# EAGLE library part HCPL2231 (library opto)
HCPL2231 Dual optocoupler with Schmitt trigger output (HP/Agilent) +5V supply, 5Mbit data rate, 1.8mA input, 1kV/µs CMR
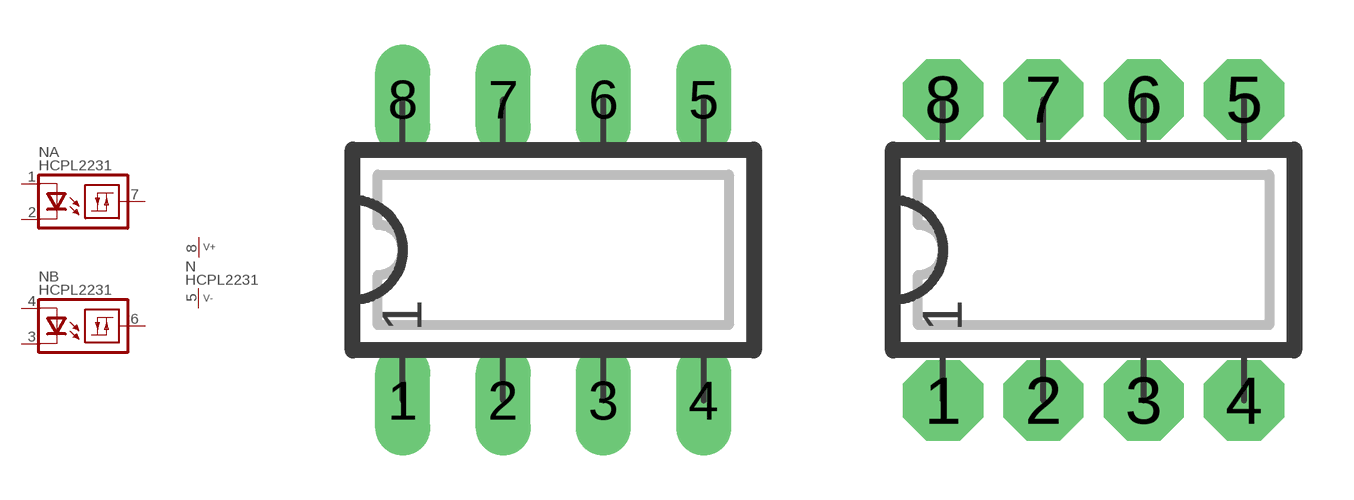
[diagram p9: symbol with the pads of DIP08L; footprints DIP08L, DIP08N]

Designator prefix N; gates A=OPTO2 B=OPTO2 P=V+-

## HCPL2231  [DIP08L]
1  A:A  pas
2  A:C  pas
3  B:C  pas
4  B:A  pas
5  P:V-  pwr
6  B:OUT  out
7  A:OUT  out
8  P:V+  pwr

## HCPL2231L  [DIP08L]
Pads as for DIP08L

## HCPL2231N  [DIP08N]
Pads as for DIP08L

## HCPL2231R  [DIP08R]
Pads as for DIP08L

## Footprint DIP08L (pad centres in mm)
DIP-8, long pads Standard IC package, 8 pins
drill 0.813 pad 1.397 long: 1 0,0; 2 2.54,0; 3 5.08,0; 4 7.62,0; 5 7.62,7.62; 6 5.08,7.62; 7 2.54,7.62; 8 0,7.62

## Footprint DIP08N (pad centres in mm)
DIP-8 Standard IC package, 8 pins
drill 0.813 pad 2.032 octagon: 1 0,0; 2 2.54,0; 3 5.08,0; 4 7.62,0; 5 7.62,7.62; 6 5.08,7.62; 7 2.54,7.62; 8 0,7.62

## Footprint DIP08R (pad centres in mm)
DIP-8, reduced pads Standard IC package, 8 pins
drill 0.813 pad 1.397 square: 1 0,0; 2 2.54,0; 3 5.08,0; 4 7.62,0; 5 7.62,7.62; 6 5.08,7.62; 7 2.54,7.62; 8 0,7.62